# Altium footprint library PCB_Package.PcbLib: 28 footprints (part 1 of 2)
Each footprint in its own frame and in the unit in brackets; x right, y up, seen from the top. Pads: shape width x height; smd on the part's side, far side on the other; paste and mask are expansions set on the pad; w line width, h text height; cw(c..) or ccw(c..) is an arc to the next point about the centre after c.
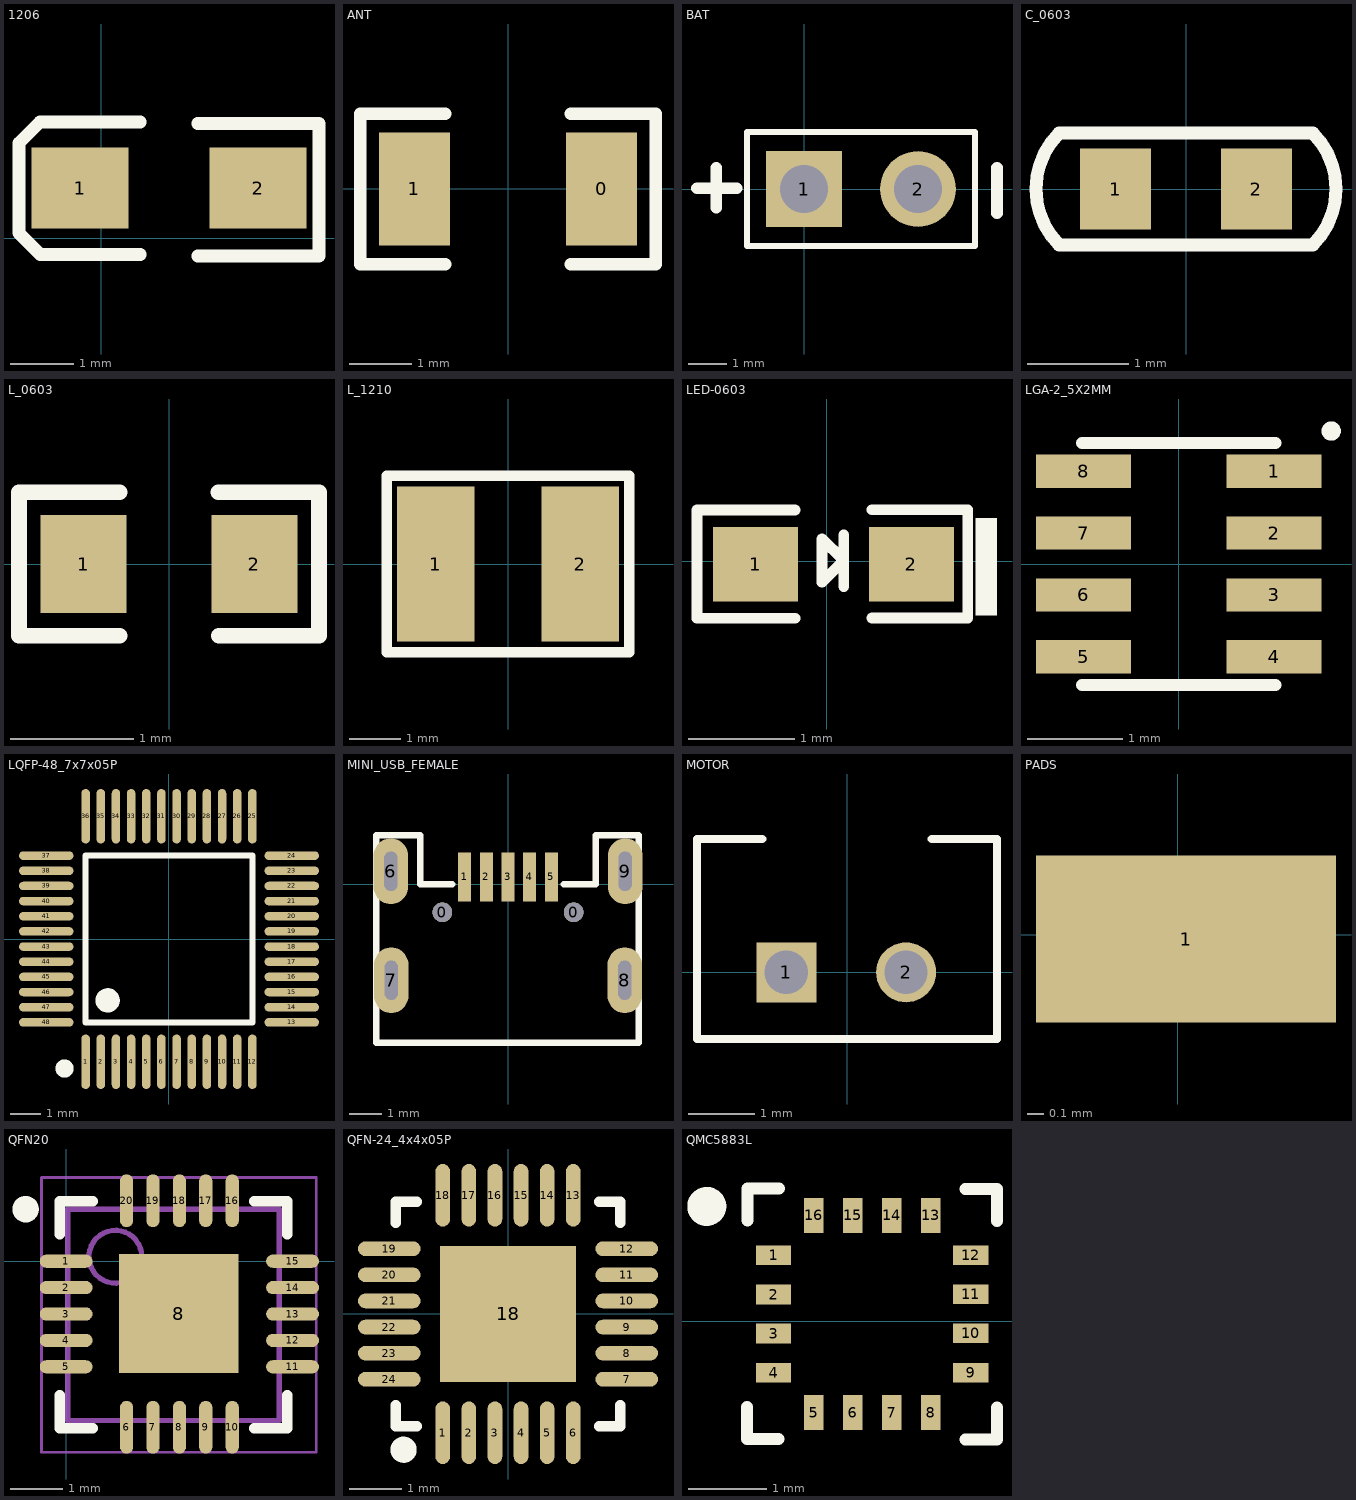
[diagram p0: the footprints below, top view; thin cyan lines are the x and y axes]

## 1206 [mil]
pads (2):
  rect 60x50 smd: 1(-13,31) 2(97,31)
Top Overlay:
  lines w5: 92.82,70.98 134.72,70.98 ; 102.82,-11.02 134.72,-11.02
  lines w8: 24.18,-10.03 -28.82,-10.03 -37.66,-10.03 -50.82,3.13 -50.82,11.97 -50.82,49.75 -50.82,58.93 -37.78,71.97 -28.6,71.97 24.18,71.97 ; 59.72,-11.02 112.72,-11.02 ; 59.72,70.98 112.72,70.98 ; 86.72,70.98 134.72,70.98 134.72,-11.02 89.72,-11.02
3D body "User Library-cap3216h160.STEP": height 62.99, standoff 0, extent -21,-0.5 104.98,62.5

## ANT [mm]
pads (2):
  rect 1.13x1.8 smd: 0(1.49,0) 1(-1.49,0)
Top Overlay:
  lines w0.2: -1,-1.2 -2.355,-1.2 -2.355,1.2 -1,1.2 ; 1,-1.2 2.355,-1.2 2.355,1.2 1,1.2
3D body "C1808.STEP": height 0.88, standoff -0.02, extent -2.25,-1 2.25,1

## BAT [mm]
pads (2):
  rect 2x2 hole 1.27: 1(0,0)
  round 2 hole 1.27: 2(3,0)
Top Overlay:
  lines w0.152: -1.5,-1.5 -1.5,1.5 4.5,1.5 4.5,-1.5 -1.5,-1.5
  lines w0.305: -2.819,0.023 -1.769,0.023 ; -2.314,-0.492 -2.314,0.559 ; 5.08,-0.641 5.08,0.559

## C_0603 [mm]
pads (2):
  rect 0.7x0.8 smd: 1(-0.694,0) 2(0.694,0)
Top Overlay:
  lines w0.127: -1.25,-0.55 cw(c-0.7,0) -1.25,0.55 1.25,0.55 cw(c0.7,0) 1.25,-0.55 -1.25,-0.55
3D body "User Library-0603 SMD Capacitor.STEP": height 0.3, standoff 0, extent -0.8,-0.4 0.8,0.4

## L_0603 [mm]
pads (2):
  rect 0.7x0.8 smd: 1(-0.694,0) 2(0.694,0)
Top Overlay:
  lines w0.127: -0.4,-0.584 -1.219,-0.584 -1.219,0.584 -0.4,0.584 ; 0.4,0.584 1.219,0.584 1.219,-0.584 0.406,-0.584
3D body "User Library-RES_1609-0603.STEP": height 0.56, standoff 0, extent -0.85,-0.4 0.85,0.4

## L_1210 [mm]
pads (2):
  rect 1.5x3 smd: 1(-1.394,0) 2(1.394,0)
Top Overlay:
  lines w0.2: -2.337,-1.702 2.337,-1.702 2.337,1.702 -2.337,1.702 -2.337,-1.702
3D body "电感.STEP": height 1.9, standoff 0, extent -1.89,-1.506 1.585,1.499

## LED-0603 [mm]
pads (2):
  rect 0.8x0.7 smd: 1(-0.668,-0.025) 2(0.795,-0.025)
Top Overlay:
  region: 1.6,0.406 1.4,0.406 1.4,-0.508 1.6,-0.508
  lines w0.1: -0.298,-0.533 -1.219,-0.533 -1.219,0.483 -0.298,0.483 ; 0.425,-0.533 1.325,-0.533 1.325,0.483 0.425,0.483
  lines w0.102: 0.159,-0.235 0.159,0.247 ; -0.044,-0.196 -0.044,0.21 0.154,0.016 0.146,-0.007 -0.044,-0.196
3D body "User Library-LED_0603_R.STEP": height 0.6, standoff 0, extent -0.775,-0.425 0.825,0.374

## LGA-2_5X2MM [mm]
pads (8):
  rect 1x0.35 smd: 1(1.001,0.975) 2(1.001,0.325) 3(1.001,-0.325) 4(1.001,-0.975) 5(-1.001,-0.975) 6(-1.001,-0.325) 7(-1.001,0.325) 8(-1.001,0.975)
Top Overlay:
  circle w0.102: c1.6,1.397 r0.051
  lines w0.127: -1.016,-1.27 1.016,-1.27 ; -1.016,1.27 1.016,1.27
3D body: height 0.9, standoff 0.01, extent -1.086,-1.346 1.092,1.314

## LQFP-48_7x7x05P [mm]
pads (48):
  oval 0.28x1.8 smd mask+0.051: 1(-2.75,-4.05) 2(-2.25,-4.05) 3(-1.75,-4.05) 4(-1.25,-4.05) 5(-0.75,-4.05) 6(-0.25,-4.05) 7(0.25,-4.05) 8(0.75,-4.05) 9(1.25,-4.05) 10(1.75,-4.05) 11(2.25,-4.05) 12(2.75,-4.05) 25(2.75,4.05) 26(2.25,4.05) 27(1.75,4.05) 28(1.25,4.05) 29(0.75,4.05) 30(0.25,4.05) 31(-0.25,4.05) 32(-0.75,4.05) 33(-1.25,4.05) 34(-1.75,4.05) 35(-2.25,4.05) 36(-2.75,4.05)
  oval 1.8x0.28 smd mask+0.051: 13(4.05,-2.75) 14(4.05,-2.25) 15(4.05,-1.75) 16(4.05,-1.25) 17(4.05,-0.75) 18(4.05,-0.25) 19(4.05,0.25) 20(4.05,0.75) 21(4.05,1.25) 22(4.05,1.75) 23(4.05,2.25) 24(4.05,2.75) 37(-4.05,2.75) 38(-4.05,2.25) 39(-4.05,1.75) 40(-4.05,1.25) 41(-4.05,0.75) 42(-4.05,0.25) 43(-4.05,-0.25) 44(-4.05,-0.75) 45(-4.05,-1.25) 46(-4.05,-1.75) 47(-4.05,-2.25) 48(-4.05,-2.75)
Top Overlay:
  circle w0.4: c-2.025,-2.025 r0.2
  circle w0.3: c-3.45,-4.275 r0.15
  lines w0.2: -2.75,-2.75 -2.75,2.75 2.75,2.75 2.75,-2.75 -2.75,-2.75
3D body "LQFP48-7x7.STEP": height 1.45, standoff 0, extent -4.503,-4.503 4.503,4.503

## MINI_USB_FEMALE [mm]
pads (11):
  round 0.6 hole 0.6: 0(-2,-0.85) 0(2,-0.85)
  rect 0.4x1.5 smd: 1(-1.321,0.229) 2(-0.66,0.229) 3(0,0.229) 4(0.66,0.229) 5(1.321,0.229)
  oval 1.05x2 hole 0.4 slot 1.2 at 90 deg: 6(-3.57,0.4) 7(-3.556,-2.921) 8(3.556,-2.921) 9(3.57,0.4)
Top Overlay:
  lines w0.2: -1.7,0 -2.667,0 -2.667,1.499 -4.013,1.499 -4.013,-4.826 3.988,-4.826 3.988,1.499 2.667,1.499 2.667,0 1.7,0
3D body "USB micro_D.STEP": height 2.79, standoff -0.95, extent -3.955,-5.795 4.015,0.905

## MOTOR [mm]
pads (2):
  rect 0.9x0.9 hole 0.65: 1(-0.911,0)
  round 0.9 hole 0.65: 2(0.886,0)
Top Overlay:
  lines w0.127: -1.27,2 -2.25,2 -2.25,-1 2.25,-1 2.25,2 1.27,2
3D body "电机插座.STEP": height 5, standoff -1.5, extent -2.092,-1.194 2.108,2.006

## PADS [mm]
pads (1):
  rect 1.8x1 smd: 1(0.051,-0.025)

## PROTECT_COVER [mm]
3D body "桨叶保护罩.STEP": height 16, standoff 10, extent -66.35,-66.542 66.65,66.339

## QFN20 [mm]
pads (21):
  oval 1x0.25 smd: 1(0,0) 2(0,-0.5) 3(0,-1) 4(0,-1.5) 5(0,-2) 11(4.286,-2) 12(4.286,-1.5) 13(4.286,-1) 14(4.286,-0.5) 15(4.286,0)
  oval 0.25x1 smd: 6(1.143,-3.143) 7(1.643,-3.143) 8(2.143,-3.143) 9(2.643,-3.143) 10(3.143,-3.143) 16(3.143,1.143) 17(2.643,1.143) 18(2.143,1.143) 19(1.643,1.143) 20(1.143,1.143)
  rect 2.261x2.261 smd: 8(2.134,-0.991)
Top Overlay:
  circle w0.25: c-0.768,0.984 r0.125
  lines w0.2: -0.118,-2.541 -0.118,-3.166 0.507,-3.166 ; -0.118,0.509 -0.118,1.134 0.507,1.134 ; 3.557,-3.166 4.182,-3.166 4.182,-2.541 ; 3.557,1.134 4.182,1.134 4.182,0.509
Mechanical 13:
  circle w0.1: c0.932,0.084 r0.5
  lines w0.1: 0.032,-3.016 0.032,0.984 4.032,0.984 4.032,-3.016 0.032,-3.016
Mechanical 15:
  lines w0.05: -0.466,-3.616 -0.466,1.584 4.734,1.584 4.734,-3.616 -0.466,-3.616
  lines w0.1: 1.634,-1.016 2.634,-1.016 ; 2.134,-1.516 2.134,-0.516
3D body: height 0.9, standoff 0.01, extent 0.032,-3.016 4.032,0.984

## QFN-24_4x4x05P [mm]
height 1
pads (25):
  oval 0.28x1.2 smd mask+0.051: 1(-1.25,-2.273) 2(-0.75,-2.273) 3(-0.25,-2.273) 4(0.25,-2.273) 5(0.75,-2.273) 6(1.25,-2.273) 13(1.25,2.273) 14(0.75,2.273) 15(0.25,2.273) 16(-0.25,2.273) 17(-0.75,2.273) 18(-1.25,2.273)
  oval 1.2x0.28 smd mask+0.051: 7(2.273,-1.25) 8(2.273,-0.75) 9(2.273,-0.25) 10(2.273,0.25) 11(2.273,0.75) 12(2.273,1.25) 19(-2.273,1.25) 20(-2.273,0.75) 21(-2.273,0.25) 22(-2.273,-0.25) 23(-2.273,-0.75) 24(-2.273,-1.25)
  rect 2.6x2.6 smd: 18(0,0)
Top Overlay:
  circle w0.25: c-2,-2.6 r0.125
  lines w0.2: -2.15,-1.75 -2.15,-2.15 -1.75,-2.15 ; -2.15,1.75 -2.15,2.15 -1.75,2.15 ; 1.75,-2.15 2.15,-2.15 2.15,-1.75 ; 1.75,2.15 2.15,2.15 2.15,1.75
3D body: height 0.9, standoff 0.01, extent -2,-2 2,2

## QMC5883L [mm]
pads (16):
  rect 0.45x0.25 smd mask+0.05: 1(2.457,0.845) 2(2.457,0.344) 3(2.457,-0.155) 4(2.457,-0.656) 10(4.983,-0.155) 11(4.983,0.345) 12(4.983,0.845)
  rect 0.25x0.45 smd mask+0.05: 5(2.97,-1.168) 6(3.47,-1.168) 7(3.97,-1.168) 8(4.47,-1.168) 13(4.47,1.358) 14(3.97,1.358) 15(3.47,1.358) 16(2.97,1.358)
  rect 0.45x0.25 smd paste+0 mask+0.05: 9(4.983,-0.655)
Top Overlay:
  circle w0.25: c1.6,1.473 r0.125
  lines w0.152: 2.114,-1.099 2.114,-1.505 2.52,-1.505 ; 2.12,1.295 2.12,1.701 2.526,1.701 ; 4.914,-1.512 5.32,-1.512 5.32,-1.105 ; 4.914,1.695 5.32,1.695 5.32,1.288
3D body: height 0.5, standoff 0, extent 2.134,-1.499 5.309,1.651